# Altium footprint library 1N4148.PcbLib: 3 footprints
Each footprint in its own frame and in the unit in brackets; x right, y up, seen from the top. Pads: shape width x height; smd on the part's side, far side on the other; paste and mask are expansions set on the pad; w line width, h text height; cw(c..) or ccw(c..) is an arc to the next point about the centre after c.
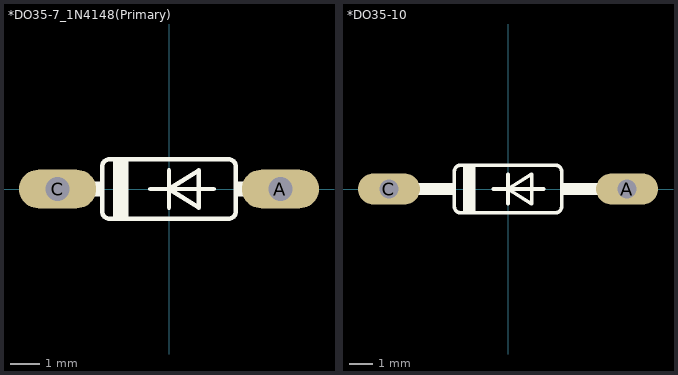
[diagram p0: the footprints below, top view; thin cyan lines are the x and y axes]

## *DO35-7_1N4148(Primary) [mil]
pads (2):
  oval 104x52 hole 32: A(150,0) C(-150,0)
Top Overlay:
  region: -115,10 -90,10 -90,-10 -115,-10
  region: 90,10 115,10 115,-10 90,-10
  region: -75,40 -55,40 -55,-40 -75,-40
  lines w6: -25,0 0,0 ; 0,-25 0,0 ; 0,25 0,0 ; 60,0 0,0 ; 0,0 40,25 40,-25 0,0 ; -90,-30 ccw(c-80,-30) -80,-40 80,-40 ccw(c80,-30) 90,-30 90,30 ccw(c80,30) 80,40 -80,40 ccw(c-80,30) -90,30 -90,-30
Mechanical 4:
  lines w10: -150,0 -115,0 -150,0 ; 115,0 150,0 115,0

## *DO35-10 [mil]
pads (2):
  oval 104x52 hole 32: A(200,0) C(-200,0)
Top Overlay:
  region: -165,10 -90,10 -90,-10 -165,-10
  region: 90,10 165,10 165,-10 90,-10
  region: -75,40 -55,40 -55,-40 -75,-40
  lines w6: -25,0 0,0 ; 0,-25 0,0 ; 0,25 0,0 ; 60,0 0,0 ; 0,0 40,25 40,-25 0,0 ; -90,-30 ccw(c-80,-30) -80,-40 80,-40 ccw(c80,-30) 90,-30 90,30 ccw(c80,30) 80,40 -80,40 ccw(c-80,30) -90,30 -90,-30
Mechanical 4:
  lines w10: -200,0 -165,0 -200,0 ; 165,0 200,0 165,0

## PCBComponent_1 [mil]